# Altium schematic symbol library 1661.SchLib: 1 symbol
Pins are listed as number, name and electrical type; pins without a type are passive.

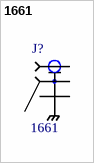
[diagram p0: symbol 1661]

## 1661
designator J?
uFL SMT Antenna Connector; MF: Keystone Electronics; Package: None; MP: 1661; SnapEDA_Link: https://www.snapeda.com/parts/1661/Keystone%20Electronics/view-part/?ref=snap; Price: None; Availability: Unavailable; Value: *
footprint MOLEX_1661
pins: 1 SIG, 2 GND, 3 GND